# Altium schematic symbol library Passive Comp.SchLib: 4 symbols
Pins are listed as number, name and electrical type; pins without a type are passive.

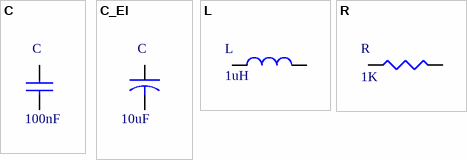
[diagram p0: symbols C to R]

## C
designator C  value 100nF  (hidden comment: *)
Capacitor
footprint 0805 (Footprint not found)
footprint 1206 (Footprint not found)
pins: 1, 2

## C_El
designator C  value 10uF  (hidden comment: *)
Manufacturer Code: T491A106K006AT; Voltage: 6V3; Farnell Code: 1457412
footprint 1206
footprint T491 (Capacitor)
pins: 1, 2

## L
designator L  value 1uH  (hidden comment: *)
Inductor
footprint 0805 (Footprint not found)
footprint 1206 (Footprint not found)
pins: 1, 2

## R
designator R  value 1K  (hidden comment: *)
Resistor
footprint 0805 (Footprint not found)
footprint 1206 (Footprint not found)
pins: 1, 2